# EAGLE library part MCP3208 (library Temp)
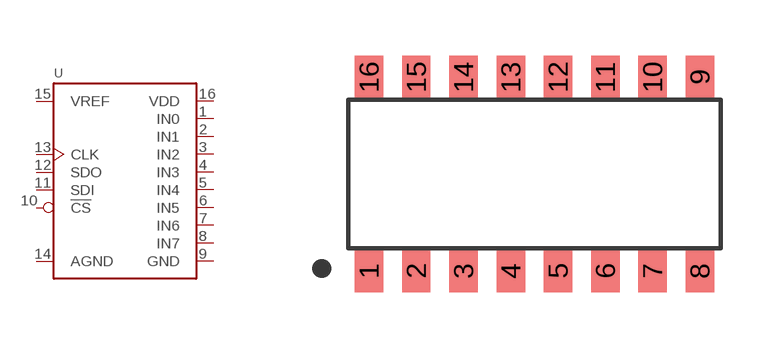
[diagram p0: symbol with the pads of SOIC-16; footprint SOIC-16]

Designator prefix U

## MCP3208  [SOIC-16]
1  IN0  in
2  IN1  in
3  IN2  in
4  IN3  in
5  IN4  in
6  IN5  in
7  IN6  in
8  IN7  in
9  GND  pwr
10  !CS!  in
11  SDI  in
12  SDO  out
13  CLK  in
14  AGND  pwr
15  VREF  pwr
16  VDD  pwr

## Footprint SOIC-16 (pad centres in mm)
SOIC-16 Datasheet <https://www.analog.com/media/en/package-pcb-resources/package/pkg_pdf/ltc-legacy-soic/S16%2005-08-1610%20Rev%20G.pdf>
smd 0.762 x 1.143: 1 -4.445,-2.603; 2 -3.175,-2.603; 3 -1.905,-2.603; 4 -0.635,-2.603; 5 0.635,-2.603; 6 1.905,-2.603; 7 3.175,-2.603; 8 4.445,-2.603; 9 4.445,2.603; 10 3.175,2.603; 11 1.905,2.603; 12 0.635,2.603; 13 -0.635,2.603; 14 -1.905,2.603; 15 -3.175,2.603; 16 -4.445,2.603